# Altium footprint library PCB1.PcbLib: 1 footprints
Each footprint in its own frame and in the unit in brackets; x right, y up, seen from the top. Pads: shape width x height; smd on the part's side, far side on the other; paste and mask are expansions set on the pad; w line width, h text height; cw(c..) or ccw(c..) is an arc to the next point about the centre after c.
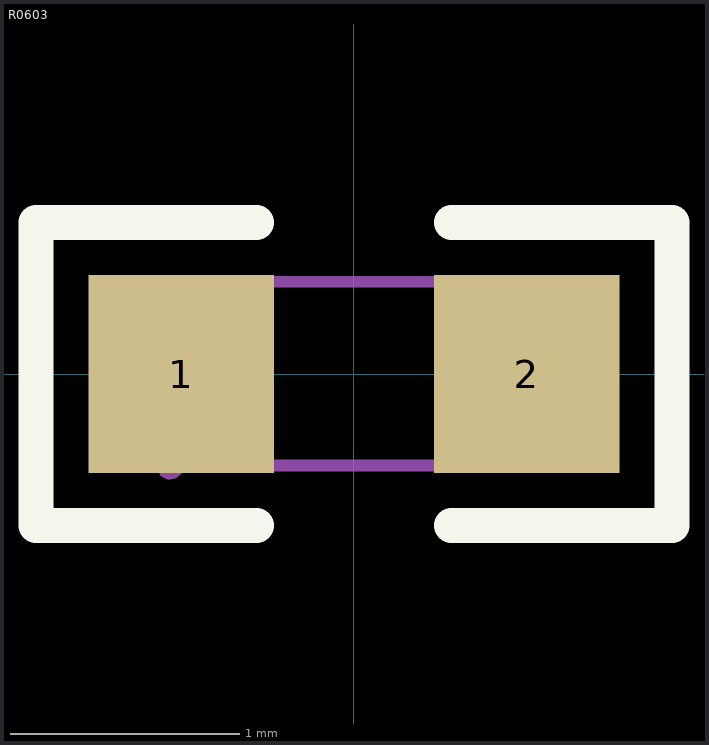
[diagram p0: the footprint, top view; thin cyan lines are the x and y axes]

## R0603 [mil]
pads (2):
  rect 31.8x34 smd paste-3937 mask+2: 1(-29.6,0) 2(29.7,0)
Top Overlay:
  lines w6: -16.7,-26 -54.5,-26 -54.5,26 -16.7,26 ; 16.8,-26 54.6,-26 54.6,26 16.8,26
Top Paste:
  region: -47,-17.7 -15.5,-17.7 -13.6,-15.7 -13.6,-6.8 -28.1,-6.8 -28.1,6.2 -13.6,6.2 -13.6,15.8 -15.5,17.7 -47,17.7 -49,15.8 -49,-15.7
  region: 47.1,17.7 15.6,17.7 13.6,15.8 13.6,6.8 28.2,6.8 28.2,-6.2 13.6,-6.2 13.6,-15.7 15.6,-17.7 47.1,-17.7 49,-15.7 49,15.8
Mechanical 7:
  lines w2: -31.5,-15.7 31.5,-15.7 31.5,15.8 -31.5,15.8 -31.5,-15.7
Mechanical 8:
  region: -29.1,-15.7 -29.5,-17 -30.5,-17.9 -31.8,-18.1 -33,-17.5 -33.7,-16.4 -33.7,-15.1 -33,-14 -31.8,-13.4 -30.5,-13.6 -29.5,-14.5
Mechanical 9:
  region: 31.5,-15.7 31.5,15.8 19.7,15.8 19.7,-15.7
  region: -31.5,-15.7 -31.5,15.8 -19.7,15.8 -19.7,-15.7